# Altium footprint library VEML60xx.PcbLib: 1 footprints
Each footprint in its own frame and in the unit in brackets; x right, y up, seen from the top. Pads: shape width x height; smd on the part's side, far side on the other; paste and mask are expansions set on the pad; w line width, h text height; cw(c..) or ccw(c..) is an arc to the next point about the centre after c.
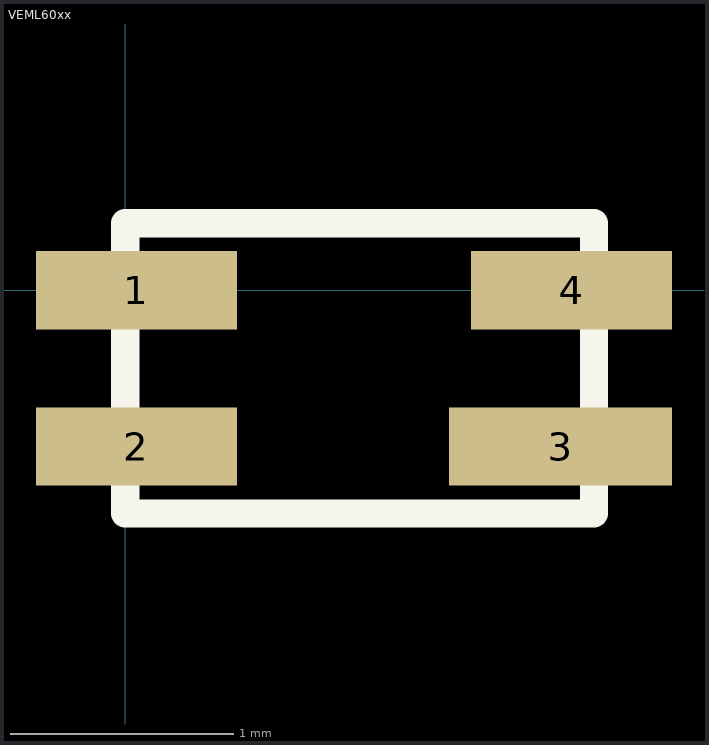
[diagram p0: the footprint, top view; thin cyan lines are the x and y axes]

## VEML60xx [mm]
pads (4):
  rect 0.9x0.35 smd: 1(0.05,0) 2(0.05,-0.7) 4(2,0)
  rect 1x0.35 smd: 3(1.95,-0.7)
Top Overlay:
  lines w0.127: 0,-1 0,0.3 2.1,0.3 2.1,-1 0,-1
3D body: height 1, standoff 0.1, extent 0.001,-0.999 2.099,0.299